# EAGLE library part TINY25/45/85 (library chris)
8-bit AVR Microcontroller with 1K Bytes In-System Programmable Flash Source: http://www.atmel.com/dyn/resources/prod_documents/2535S.pdf
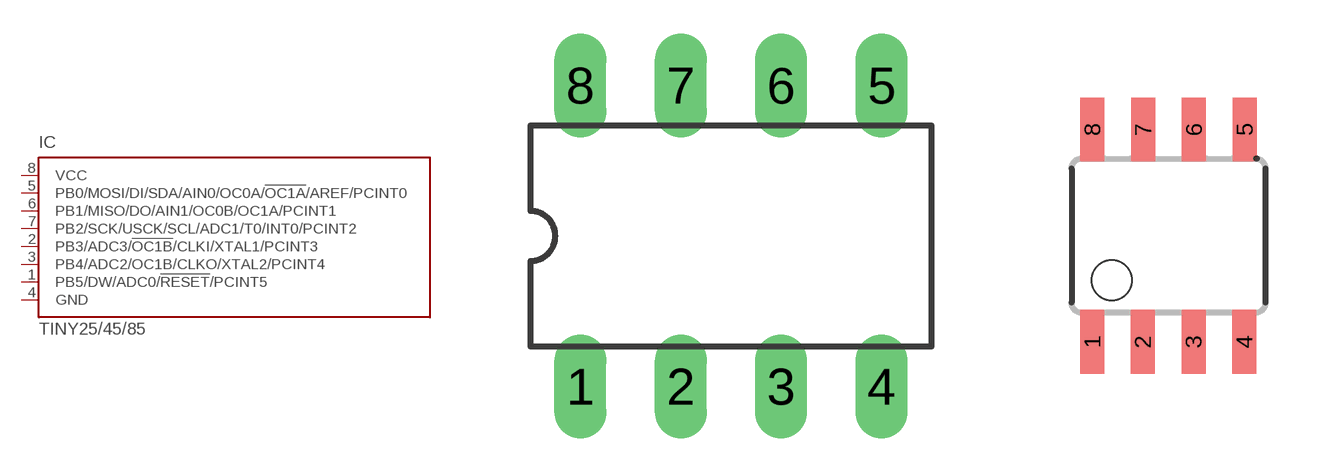
[diagram p1: symbol with the pads of DIL08; footprints DIL08, S8S1]

Designator prefix IC

## TINY25/45/85-20PU, TINY25/45/85V-10PU  [DIL08]
1  PB5/DW/ADC0/!RESET!/PCINT5
2  PB3/ADC3/!OC1B!/CLKI/XTAL1/PCINT3
3  PB4/ADC2/OC1B/CLKO/XTAL2/PCINT4
4  GND  pwr
5  PB0/MOSI/DI/SDA/AIN0/OC0A/!OC1A!/AREF/PCINT0
6  PB1/MISO/DO/AIN1/OC0B/OC1A/PCINT1
7  PB2/SCK/USCK/SCL/ADC1/T0/INT0/PCINT2
8  VCC  pwr

## TINY25/45/85-20SSU, TINY25/45/85V-10SSU  [S8S1]
Pads as for DIL08

## TINY25/45/85-20SU, TINY25/45/85V-10SU  [8S2]
Pads as for DIL08

## Footprint DIL08 (pad centres in mm)
Dual In Line
drill 0.813 long: 1 -3.81,-3.81; 2 -1.27,-3.81; 3 1.27,-3.81; 4 3.81,-3.81; 5 3.81,3.81; 6 1.27,3.81; 7 -1.27,3.81; 8 -3.81,3.81

## Footprint S8S1 (pad centres in mm)
S8S1 8-lead (0.150" Wide Body) Plastic Gull Wing Small Outline (JEDEC SOIC) Source: http://www.atmel.com/dyn/resources/prod_documents/2535S.pdf
smd 0.6 x 1.6: 1 -1.905,-2.654; 2 -0.645,-2.654; 3 0.625,-2.654; 4 1.895,-2.654; 5 1.905,2.654; 6 0.635,2.654; 7 -0.635,2.654; 8 -1.905,2.654

## Footprint 8S2 (pad centres in mm)
8S2 8-lead, 0.208 Body Plastic Small Outline Package (EIAJ) Source: http://www.atmel.com/dyn/resources/prod_documents/2535S.pdf
smd 0.5 x 1.4: 1 -1.905,-3.404; 2 -0.645,-3.404; 3 0.625,-3.404; 4 1.895,-3.404; 5 1.905,3.404; 6 0.635,3.404; 7 -0.635,3.404; 8 -1.905,3.404